# Altium schematic symbol library SCH - MCU - STM32 - ST MICROELECTRONICS STM32G081KBTXN LQFP32.SchLib: 1 symbol
Pins are listed as number, name and electrical type; pins without a type are passive.

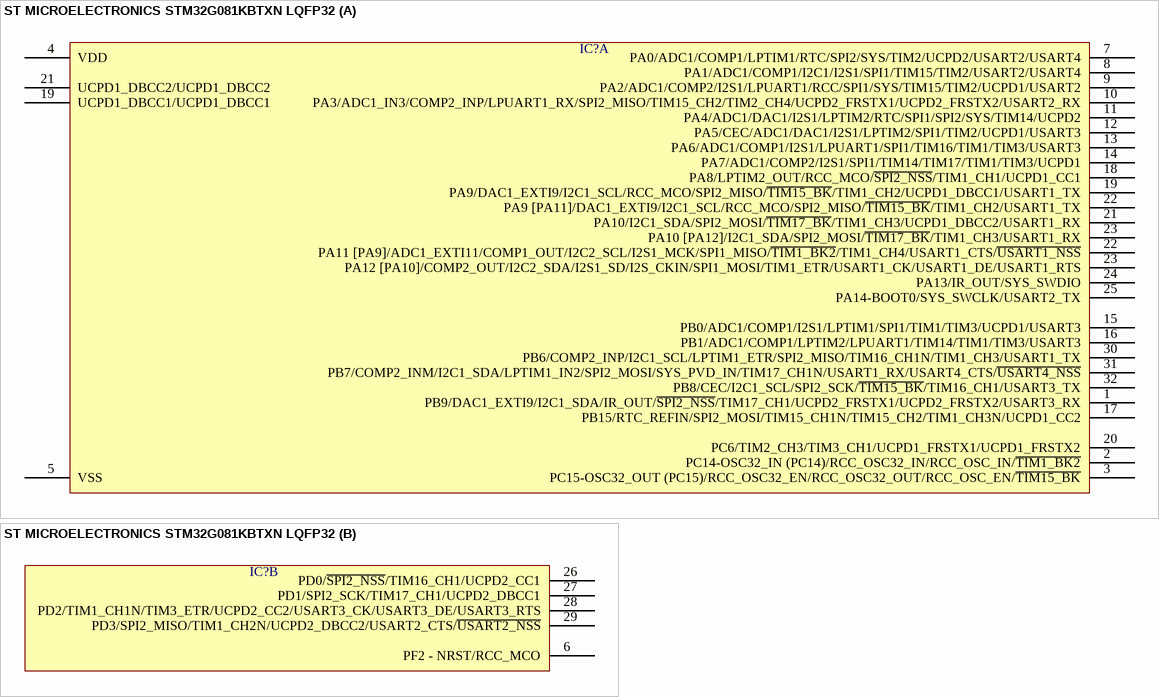
[diagram p0: symbol ST MICROELECTRONICS STM32G081KBTXN LQFP32]

## ST MICROELECTRONICS STM32G081KBTXN LQFP32
designator IC?  (value not drawn)
part A pins: 1 PB9/DAC1_EXTI9/I2C1_SDA/IR_OUT/~{SPI2_NSS}/TIM17_CH1/UCPD2_FRSTX1/UCPD2_FRSTX2/USART3_RX, 2 PC14-OSC32_IN (PC14)/RCC_OSC32_IN/RCC_OSC_IN/~{TIM1_BK2}, 3 PC15-OSC32_OUT (PC15)/RCC_OSC32_EN/RCC_OSC32_OUT/RCC_OSC_EN/~{TIM15_BK}, 4 VDD, 5 VSS, 7 PA0/ADC1/COMP1/LPTIM1/RTC/SPI2/SYS/TIM2/UCPD2/USART2/USART4, 8 PA1/ADC1/COMP1/I2C1/I2S1/SPI1/TIM15/TIM2/USART2/USART4, 9 PA2/ADC1/COMP2/I2S1/LPUART1/RCC/SPI1/SYS/TIM15/TIM2/UCPD1/USART2, 10 PA3/ADC1_IN3/COMP2_INP/LPUART1_RX/SPI2_MISO/TIM15_CH2/TIM2_CH4/UCPD2_FRSTX1/UCPD2_FRSTX2/USART2_RX, 11 PA4/ADC1/DAC1/I2S1/LPTIM2/RTC/SPI1/SPI2/SYS/TIM14/UCPD2, 12 PA5/CEC/ADC1/DAC1/I2S1/LPTIM2/SPI1/TIM2/UCPD1/USART3, 13 PA6/ADC1/COMP1/I2S1/LPUART1/SPI1/TIM16/TIM1/TIM3/USART3, 14 PA7/ADC1/COMP2/I2S1/SPI1/TIM14/TIM17/TIM1/TIM3/UCPD1, 15 PB0/ADC1/COMP1/I2S1/LPTIM1/SPI1/TIM1/TIM3/UCPD1/USART3, 16 PB1/ADC1/COMP1/LPTIM2/LPUART1/TIM14/TIM1/TIM3/USART3, 17 PB15/RTC_REFIN/SPI2_MOSI/TIM15_CH1N/TIM15_CH2/TIM1_CH3N/UCPD1_CC2, 18 PA8/LPTIM2_OUT/RCC_MCO/~{SPI2_NSS}/TIM1_CH1/UCPD1_CC1, 19 PA9/DAC1_EXTI9/I2C1_SCL/RCC_MCO/SPI2_MISO/~{TIM15_BK}/TIM1_CH2/UCPD1_DBCC1/USART1_TX, 19 UCPD1_DBCC1/UCPD1_DBCC1, 20 PC6/TIM2_CH3/TIM3_CH1/UCPD1_FRSTX1/UCPD1_FRSTX2, 21 PA10/I2C1_SDA/SPI2_MOSI/~{TIM17_BK}/TIM1_CH3/UCPD1_DBCC2/USART1_RX, 21 UCPD1_DBCC2/UCPD1_DBCC2, 22 PA9 [PA11]/DAC1_EXTI9/I2C1_SCL/RCC_MCO/SPI2_MISO/~{TIM15_BK}/TIM1_CH2/USART1_TX, 22 PA11 [PA9]/ADC1_EXTI11/COMP1_OUT/I2C2_SCL/I2S1_MCK/SPI1_MISO/~{TIM1_BK2}/TIM1_CH4/USART1_CTS/~{USART1_NSS}, 23 PA10 [PA12]/I2C1_SDA/SPI2_MOSI/~{TIM17_BK}/TIM1_CH3/USART1_RX, 23 PA12 [PA10]/COMP2_OUT/I2C2_SDA/I2S1_SD/I2S_CKIN/SPI1_MOSI/TIM1_ETR/USART1_CK/USART1_DE/USART1_RTS, 24 PA13/IR_OUT/SYS_SWDIO, 25 PA14-BOOT0/SYS_SWCLK/USART2_TX, 30 PB6/COMP2_INP/I2C1_SCL/LPTIM1_ETR/SPI2_MISO/TIM16_CH1N/TIM1_CH3/USART1_TX, 31 PB7/COMP2_INM/I2C1_SDA/LPTIM1_IN2/SPI2_MOSI/SYS_PVD_IN/TIM17_CH1N/USART1_RX/USART4_CTS/~{USART4_NSS}, 32 PB8/CEC/I2C1_SCL/SPI2_SCK/~{TIM15_BK}/TIM16_CH1/USART3_TX
part B pins: 6 PF2 - NRST/RCC_MCO, 26 PD0/~{SPI2_NSS}/TIM16_CH1/UCPD2_CC1, 27 PD1/SPI2_SCK/TIM17_CH1/UCPD2_DBCC1, 28 PD2/TIM1_CH1N/TIM3_ETR/UCPD2_CC2/USART3_CK/USART3_DE/USART3_RTS, 29 PD3/SPI2_MISO/TIM1_CH2N/UCPD2_DBCC2/USART2_CTS/~{USART2_NSS}